# Altium schematic symbol library UWRT_Schematic_Library_2020.SchLib: 205 symbols (part 1 of 4)
Pins are listed as number, name and electrical type; pins without a type are passive.

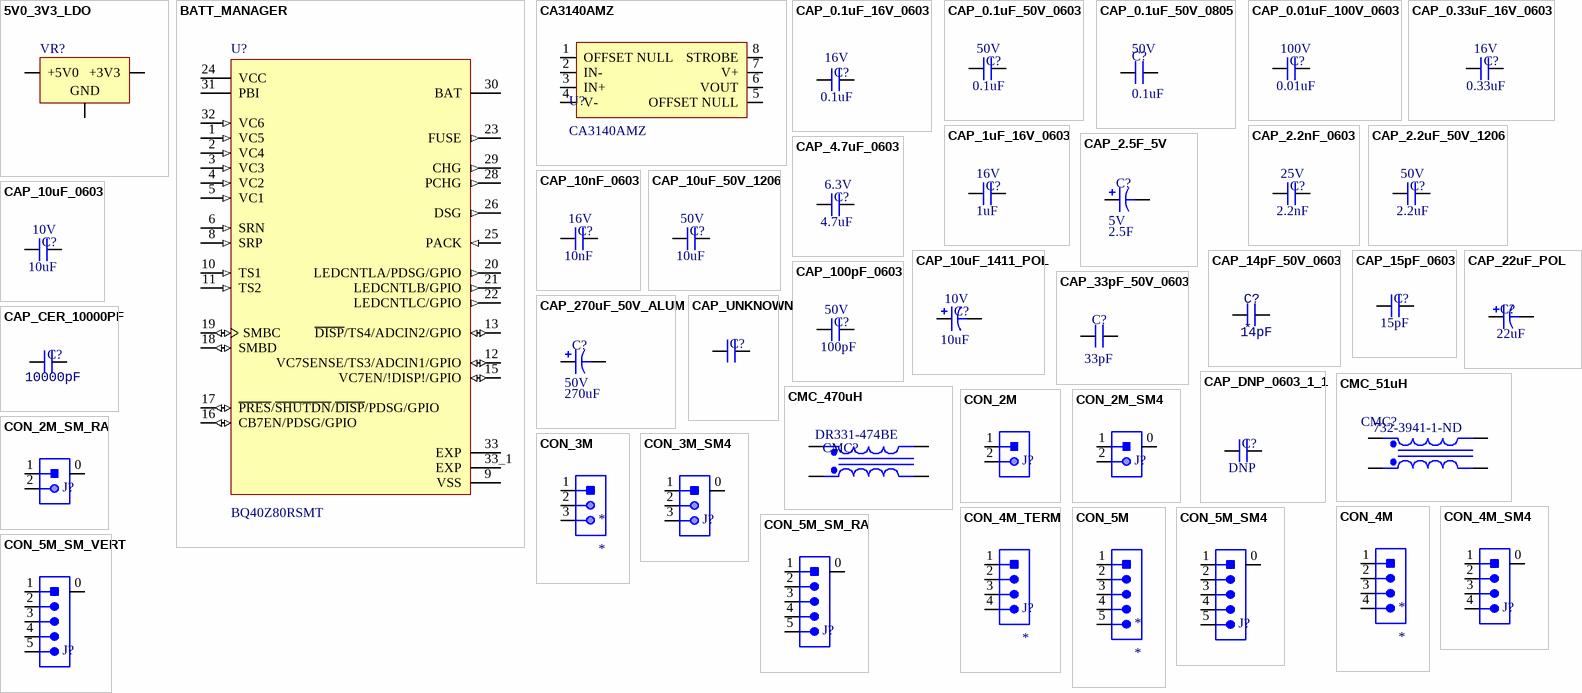
[diagram p0: symbols 5V0_3V3_LDO to CON_5M_SM_VERT]

## 5V0_3V3_LDO
designator VR?
IC REG LINEAR 3.3V 1A DPAK; Manufacturer Part Number 1: NCP1117DT33T5G; Manufacturer 1: ON Semiconductor; Current Output: 1A; Supplier Part Number 1: NCP1117DT33T5GOSCT-ND; Supplier 1: Digi-Key; Mount: Surface Mount
footprint D2PAK_L (D2-PAK, 4-Leads, Body 8.8x10.4mm, Pitch 2.54mm, Lead Span 15.1mm, IPC High Density)
footprint D2PAK_M (D2-PAK, 4-Leads, Body 8.8x10.4mm, Pitch 2.54mm, Lead Span 15.1mm, IPC Low Density)
footprint VOLTAGE_REGULATOR (DPAK, 3-Leads, Body 6.095x6.54mm, Pitch 4.57mm)
pins: 1 GND, 2 +3V3, 3 +5V0

## BATT_MANAGER
designator U?, comment BQ40Z80RSMT
POWER MANAGEMENT IC: Battery Multi-Function Controller IC Lithium Ion/Polymer 32-VQFN (4x4); Manufacturer 1: Texas Instruments; SnapEDA_Link: https://www.snapeda.com/parts/BQ40Z80RSMT/Texas%20Instruments/view-part/2782044/?ref=snap; Value: *; Manufacturer Part Number 1: BQ40Z80RSMT; Supplier Part Number 1: 296-BQ40Z80RSMTCT-ND; Supplier 1: Digi-Key
footprint BQ40Z80RSMT (QFN40P400X400X100-33N_BQ40Z80RSMT(Primary))
pins: 1 VC5 (in), 2 VC4 (in), 3 VC3 (in), 4 VC2 (in), 5 VC1 (in), 6 SRN (in), 8 SRP (in), 9 VSS (power), 10 TS1 (in), 11 TS2 (in), 12 VC7SENSE/TS3/ADCIN1/GPIO (io), 13 ~{DISP}/TS4/ADCIN2/GPIO (io), 15 VC7EN/!DISP!/GPIO (io), 16 CB7EN/PDSG/GPIO (io), 17 ~{PRES}/~{SHUTDN}/~{DISP}/PDSG/GPIO (io), 18 SMBD (io), 19 SMBC (io), 20 LEDCNTLA/PDSG/GPIO (out), 21 LEDCNTLB/GPIO (out), 22 LEDCNTLC/GPIO (out), 23 FUSE (out), 24 VCC (power), 25 PACK (in), 26 DSG (out), 28 PCHG (out), 29 CHG (out), 30 BAT (power), 31 PBI (power), 32 VC6 (in), 33 EXP (power), 33_1 EXP (power)

## CA3140AMZ
designator U?
IC OPAMP GP 1 CIRCUIT 8SOIC; Manufacturer 1: Renesas Electronics America Inc.; Supplier Part Number 1: CA3140AMZ-ND; Manufacturer Part Number 1: CA3140AMZ; Supplier 1: Digi-Key; Mount: Surface Mount
footprint CA3140AMZ
pins: 1 OFFSET NULL, 2 IN-, 3 IN+, 4 V-, 5 OFFSET NULL, 6 VOUT, 7 V+, 8 STROBE

## CAP_0.1uF_16V_0603
designator C?  value 0.1uF  Voltage Rating: 16V
CAP CER 0.1UF 16V X7R 0603; Manufacturer Part Number 1: CC0603KRX7R7BB104; Manufacturer 1: Yageo; Dimensions: 0.063" L x 0.031" W (1.60mm x 0.80mm); Package: 0603 (1608 Metric); Temperature Coefficient: X7R; Supplier Part Number 1: 311-1088-1-ND; Supplier 1: Digi-Key; Mount: Surface Mount
footprint CAPC0603(1608)55_N (Chip Capacitor, Body 1.6x0.8mm, Height 0.55mm, IPC Medium Density)
simulation model CAP (Capacitor)
signal-integrity model Cap
pins: 1, 2

## CAP_0.1uF_50V_0603
designator C?  value 0.1uF  Voltage Rating: 50V
CAP CER 0.1UF 50V X7R 0603; Manufacturer Part Number 1: CC0603KRX7R9BB104; Manufacturer 1: Yageo; Dimensions: 0.063" L x 0.031" W (1.60mm x 0.80mm); Package: 0603 (1608 Metric); Temperature Coefficient: X7R; Supplier Part Number 1: 311-1344-1-ND; Supplier 1: Digi-Key; Mount: Surface Mount
footprint CAPC0603(1608)55_N (Chip Capacitor, Body 1.6x0.8mm, Height 0.55mm, IPC Medium Density)
simulation model CAP (Capacitor)
signal-integrity model Cap
pins: 1, 2

## CAP_0.1uF_50V_0805
designator C?  value 0.1uF  Voltage Rating: 50V
CAP CER 0.1UF 50V X7R 0805; Manufacturer 1: Murata; Manufacturer Part Number 1: GCD21BR71H104KA01L; Capacitance: 100nF; Tolerance: 10%; Mount: Surface Mount; Case/Package: 0805; Case Code (Metric): 2012; Case Code (Imperial): 0805; Min Operating Temperature: -55°C; Max Operating Temperature: 125°C; Dielectric: X7R; Termination: SMD/SMT; Length: 2mm; Height: 1.25mm; Width: 0.049inch; Thickness: 0.049inch; Depth: 1.25mm; Ratings: AEC-Q200; ComponentLink1URL: https://datasheet.ciiva.com/29537/c03e-29537701.pdf?src-supplier=Digi-Key; ComponentLink1Description: https://datasheet.ciiva.com/29537/c03e-29537701.pdf?src-supplier=Digi-Key; Supplier 1: Digi-Key; Supplier Part Number 1: 490-11955-1-ND
footprint CAPC2012X140N
pins: 1, 2

## CAP_0.01uF_100V_0603
designator C?  value 0.01uF  Voltage Rating: 100V
CAP CER 10000PF 100V X7R 0603; Manufacturer Part Number 1: GCM188R72A103KA37J; Manufacturer 1: Murata Electronics; Dimensions: 0.063" L x 0.031" W (1.60mm x 0.80mm); Package: 0603 (1608 Metric); Temperature Coefficient: X7R; Supplier Part Number 1: 490-8028-1-ND; Supplier 1: Digi-Key; Mount: Surface Mount
footprint CAPC0603(1608)55_N (Chip Capacitor, Body 1.6x0.8mm, Height 0.55mm, IPC Medium Density)
simulation model CAP (Capacitor)
signal-integrity model Cap
pins: 1, 2

## CAP_0.33uF_16V_0603
designator C?  value 0.33uF  Voltage Rating: 16V
CAP CER 0.33UF 16V X7R 0603; Manufacturer Part Number 1: GCM188R71C334KA37D; Manufacturer 1: Murata Electronics North America; Dimensions: 0.063" L x 0.031" W (1.60mm x 0.80mm); Package: 0603 (1608 Metric); Temperature Coefficient: X7R; Supplier Part Number 1: 490-6050-1-ND; Supplier 1: Digi-Key; Mount: Surface Mount
footprint CAPC0603(1608)55_N (Chip Capacitor, Body 1.6x0.8mm, Height 0.55mm, IPC Medium Density)
simulation model CAP (Capacitor)
signal-integrity model Cap
pins: 1, 2

## CAP_1uF_16V_0603
designator C?  value 1uF  Voltage Rating: 16V
CAP CER 1UF 16V Y5V 0603; Manufacturer Part Number: CC0603ZRY5V7BB105; Manufacturer 1: Yageo; Dimensions: 0.063" L x 0.031" W (1.60mm x 0.80mm); Package: 0603 (1608 Metric); Temperature Coefficient: Y5V; Supplier Part Number 1: 311-1372-1-ND; Supplier 1: Digi-Key; Mount: Surface Mount
simulation model CAP (Capacitor)
signal-integrity model Cap
footprint CAPC0603(1608)55_N (Chip Capacitor, Body 1.6x0.8mm, Height 0.55mm, IPC Medium Density)
pins: 1, 2

## CAP_2.2nF_0603
designator C?  value 2.2nF  Voltage Rating: 25V
CAP CER 2.2NF 25V X7R 0603; Manufacturer Part Number 1: CC0603KRX7R8BB222; Manufacturer 1: Yageo; Dimensions: 0.063" L x 0.031" W (1.60mm x 0.80mm); Package: 0603 (1608 Metric); Temperature Coefficient: X7R; Supplier Part Number 1: 311-3653-1-ND; Supplier 1: Digi-Key; Mount: Surface Mount
footprint CAPC0603(1608)55_N (Chip Capacitor, Body 1.6x0.8mm, Height 0.55mm, IPC Medium Density)
simulation model CAP (Capacitor)
signal-integrity model Cap
pins: 1, 2

## CAP_2.2uF_50V_1206
designator C?, comment Voltage Rating: 50V  (hidden comment: 2.2uF)
CAP CER 2.2UF 50V X7R 1206; Manufacturer Part Numer 1: C1206C225K5RACAUTO; Manufacturer 1: KEMET; Dimensions: 0.126" L x 0.063" W (3.20mm x 1.6mm); Package: 1206 (3216 Metric); Supplier Part Number 1: 399-7019-1-ND; Supplier 1: Digi-Key; Mount: Surface Mount; Value: 2.2uF
simulation model CAP (Capacitor)
signal-integrity model Cap
footprint CAPC1206(3216) (Chip Capacitor, Body 3.2x1.6mm, Height 0.55mm, IPC Medium Density)
pins: 1, 2

## CAP_2.5F_5V
designator C?  Voltage Rating: 5V  Capacitance: 2.5F  (hidden comment: *)
CAP 2.5F 5V; Manufacturer 1: AVX Corporation; Manufacturer Part Number 1: SCMS22C255PRBA0; Tolerance: 0%, +100%; RoHS: Yes; Mount: Through Hole; Case/Package: Radial; Min Operating Temperature: -40°C; Max Operating Temperature: 85°C; Voltage Rating (DC): 5V; Dimensions: 0.787" L x 0.394" W (20.00mm x 10.00mm); Height - Seated (Max): 0.925" (23.50mm); Supplier 1: Digi-Key
pins: 1, 2

## CAP_4.7uF_0603
designator C?  value 4.7uF  Voltage Rating: 6.3V
CAP CER 4.7UF 6.3V X5R 0603; Manufacturer Part Number 1: CC0603KRX5R5BB475; Manufacturer 1: Yageo; Dimensions: 0.063" L x 0.031" W (1.60mm x 0.80mm); Package: 0603 (1608 Metric); Temperature Coefficient: X5R; Supplier Part Number 1: 311-1521-1-ND; Supplier 1: Digi-Key; Mount: Surface Mount
footprint CAPC0603(1608)55_N (Chip Capacitor, Body 1.6x0.8mm, Height 0.55mm, IPC Medium Density)
simulation model CAP (Capacitor)
signal-integrity model Cap
pins: 1, 2

## CAP_10nF_0603
designator C?  value 10nF  Voltage Rating: 16V
CAP CER 10000PF 16V X7R 0603; Manufacturer Part Number 1: CC0603KRX7R7BB103; Manufacturer 1: Yageo; Dimensions: 0.063" L x 0.031" W (1.60mm x 0.80mm); Package: 0603 (1608 Metric); Temperature Coefficient: X7R; Supplier Part Number 1: 311-3369-1-ND; Supplier 1: Digi-Key; Mount: Surface Mount
footprint CAPC0603(1608)55_N (Chip Capacitor, Body 1.6x0.8mm, Height 0.55mm, IPC Medium Density)
simulation model CAP (Capacitor)
signal-integrity model Cap
pins: 1, 2

## CAP_10uF_50V_1206
designator C?, comment Voltage Rating: 50V  (hidden comment: 10uF)
CAP CER 10UF 50V X5R 1206; Manufacturer Part Numer 1: GRT31CR61H106KE01L; Manufacturer 1: Murata; Dimensions: 0.126" L x 0.063" W (3.20mm x 1.6mm); Package: 1206 (3216 Metric); Supplier Part Number 1: 490-12456-1-ND; Supplier 1: Digi-Key; Mount: Surface Mount; Value: 10uF
simulation model CAP (Capacitor)
signal-integrity model Cap
footprint CAPC1206(3216) (Chip Capacitor, Body 3.2x1.6mm, Height 0.55mm, IPC Medium Density)
pins: 1, 2

## CAP_10uF_0603
designator C?, comment Voltage Rating: 10V  (hidden comment: 10uF)
CAP CER 10UF 10V X5R 0603; Manufacturer Part Number 1: CC0603MRX5R6BB106; Manufacturer 1: Yageo; Dimensions: 0.063" L x 0.031" W (1.60mm x 0.80mm); Package: 0603 (1608 Metric); Supplier Part Number 1: 311-1817-1-ND; Supplier 1: Digi-Key; Mount: Surface Mount; Value: 10uF
simulation model CAP (Capacitor)
signal-integrity model Cap
footprint CAPC0603(1608)55_N (Chip Capacitor, Body 1.6x0.8mm, Height 0.55mm, IPC Medium Density)
pins: 1, 2

## CAP_10uF_1411_POL
designator C?  value 10uF  Voltage Rating: 10V
CAP TANT 10UF 20% 10V 1411; Manufacturer Part Number 1: F971A106MBAHT3; Manufacturer 1: AVX Corporation; Dimensions: 0.063" L x 0.031" W (1.60mm x 0.80mm); Package: 1411 (3528 Metric); Supplier Part Number 1: 478-12047-1-ND; Supplier 1: Digi-Key; Mount: Surface Mount
simulation model CAP (Capacitor)
signal-integrity model Cap
footprint AVX-CAPC3528_V (SMT Capacitor, 2 Leads, Body 3.5x2.8mm)
pins: 1, 2

## CAP_14pF_50V_0603
designator C?  value 14pF
CAP CER 14PF 50V C0G/NP0 0603; Manufacturer 1: Samsung; Manufacturer Part Number 1: CL10C140JB8NNNC; Tolerance: 5%; Dielectric: C0G; Supplier 1: Digi-Key; Stock 1: 187088; Pricing 1: 1=0.10000, 10=0.06700, 100=0.02980, 500=0.02130, 1000=0.01673 (USD); RoHS: Yes; Mount: Surface Mount; Case/Package: 0603; Case Code (Metric): 1608; Case Code (Imperial): 0603; Min Operating Temperature: -55°C; Max Operating Temperature: 125°C; Package Quantity: 1; Packaging: Tape and Reel; Voltage Rating: 50V; Voltage Rating (DC): 50V; Length: 1.6mm; Height: 0.8mm; Width: 0.031inch; Depth: 0.8mm; Thickness: 0.035inch; Radiation Hardening: No; ComponentLink1URL: https://datasheet.ciiva.com/25782/cl10c140jb8nnnc-25782947.pdf?src-supplier=Digi-Key; ComponentLink1Description: https://datasheet.ciiva.com/25782/cl10c140jb8nnnc-25782947.pdf?src-supplier=Digi-Key; Supplier Part Number 1: 1276-2187-1-ND; Capacitance: 14pF
pins: 1, 2

## CAP_15pF_0603
designator C?  value 15pF
CAP CER 15PF 250V NPO 0603; Manufacturer Part Number 1: AC0603JRNPOYBN150; Manufacturer 1: Yageo; Temperature Coefficient: NP0; Dimensions: 0.063" L x 0.031" W (1.60mm x 0.80mm); Package: 0603 (1608 Metric); Voltage Rating: 250V; Supplier Part Number 1: 311-3282-1-ND; Supplier 1: Digi-Key; Mount: Surface Mount, MLCC
footprint CAPC0603(1608)55_N (Chip Capacitor, Body 1.6x0.8mm, Height 0.55mm, IPC Medium Density)
simulation model CAP (Capacitor)
signal-integrity model Cap
pins: 1, 2

## CAP_22uF_POL
designator C?  value 22uF
CAP ALUM 22UF 20% 50V RADIAL; Manufacturer 1: Wurth Electronics Inc.; Manufacturer Part Number 1: 860020672011; Voltage Rating: 50V; Tolerance: 20%; Supplier Part Number 1: 732-8857-1-ND; Supplier 1: Digi-Key; Mount: Through Hole
footprint CAPR-2/4h6.8
simulation model CAP (Capacitor)
signal-integrity model Cap Pol
pins: 1, 2
1 alternate drawing of the same symbol

## CAP_33pF_50V_0603
designator C?  Capacitance: 33pF  (hidden comment: *)
CAP CER 33PF 50V C0G/NP0; Manufacturer 1: Yageo; Manufacturer Part Number 1: CC0603JRNPO9BN330; Dielectric Material: Ceramic; Temperature Coefficient: 30ppm/°C; Tolerance: 5%; Dielectric: C0G; Insulation Resistance: 100GR; Supplier 1: Digi-Key; Stock 1: 177901; Pricing 1: 1=0.10000, 10=0.04900, 100=0.02190, 500=0.01566, 1000=0.01231 (USD); RoHS: Yes; Mount: Surface Mount; Case/Package: 0603; Number of Pins: 2; Case Code (Metric): 1608; Case Code (Imperial): 0603; Min Operating Temperature: -55°C; Max Operating Temperature: 125°C; Termination: SMD/SMT; Composition: Ceramic; Voltage: 50V; Packaging: Tape and Reel; Voltage Rating: 50V; Package Quantity: 1; Voltage Rating (DC): 50V; Length: 1.6mm; Height: 0.8mm; Thickness: 0.035inch; Depth: 0.8mm; Width: 0.031inch; Radiation Hardening: No; Lead Free: Lead Free; REACH SVHC: No SVHC; ComponentLink1URL: https://datasheet.ciiva.com/11786/0900766b8079c870-11786082.pdf?src-supplier=RSComponents; ComponentLink1Description: https://datasheet.ciiva.com/11786/0900766b8079c870-11786082.pdf?src-supplier=RSComponents; ComponentLink2URL: https://datasheet.ciiva.com/26862/getdatasheetpartid-403532-26862767.pdf?src-supplier=Verical; ComponentLink2Description: https://datasheet.ciiva.com/26862/getdatasheetpartid-403532-26862767.pdf?src-supplier=Verical; ComponentLink3URL: https://datasheet.ciiva.com/144/mlccorderingcode-144643.pdf?src-supplier=Digi-Key; ComponentLink3Description: https://datasheet.ciiva.com/144/mlccorderingcode-144643.pdf?src-supplier=Digi-Key; ComponentLink4URL: https://datasheet.ciiva.com/144/mlccorderingcode-144645.pdf?src-supplier=Digi-Key; ComponentLink4Description: https://datasheet.ciiva.com/144/mlccorderingcode-144645.pdf?src-supplier=Digi-Key; ComponentLink5URL: https://datasheet.ciiva.com/8033/1372269-8033734.pdf?src-supplier=Element14; ComponentLink5Description: https://datasheet.ciiva.com/8033/1372269-8033734.pdf?src-supplier=Element14; ComponentLink6URL: https://datasheet.ciiva.com/8033/1443161-8033735.pdf?src-supplier=Element14; ComponentLink6Description: https://datasheet.ciiva.com/8033/1443161-8033735.pdf?src-supplier=Element14; ComponentLink7URL: https://datasheet.ciiva.com/11464/upy-gp-np0-16v-to-50v-8-11464730.pdf?src-supplier=Avnet; ComponentLink7Description: https://datasheet.ciiva.com/11464/upy-gp-np0-16v-to-50v-8-11464730.pdf?src-supplier=Avnet; ComponentLink8URL: https://datasheet.ciiva.com/46430/1835847-46430155.pdf?src-supplier=Element14; ComponentLink8Description: https://datasheet.ciiva.com/46430/1835847-46430155.pdf?src-supplier=Element14; ComponentLink9URL: https://datasheet.ciiva.com/144/mlccorderingcode-144644.pdf?src-supplier=Digi-Key; ComponentLink9Description: https://datasheet.ciiva.com/144/mlccorderingcode-144644.pdf?src-supplier=Digi-Key; ComponentLink10URL: https://datasheet.ciiva.com/5426/upy-gp-np0-16v-to-50v-8-5426614.pdf?src-supplier=Mouser; ComponentLink10Description: https://datasheet.ciiva.com/5426/upy-gp-np0-16v-to-50v-8-5426614.pdf?src-supplier=Mouser; ComponentLink11URL: https://datasheet.ciiva.com/7978/1443161-7978142.pdf?src-supplier=Element14; ComponentLink11Description: https://datasheet.ciiva.com/7978/1443161-7978142.pdf?src-supplier=Element14; Supplier Part Number 1: 311-1064-1-ND
footprint CAPC0603(1608)55_N (Chip Capacitor, Body 1.6x0.8mm, Height 0.55mm, IPC Medium Density)
pins: 1, 2

## CAP_100pF_0603
designator C?  value 100pF  Voltage Rating: 50V
CAP CER 100PF 50V C0G/NP0 0603; Manufacturer Part Number 1: VJ0603A101JXAAC; Manufacturer 1: Vishay Vitramon; Temperature Coefficient: C0G; Dimensions: 0.063" L x 0.031" W (1.60mm x 0.80mm); Package: 0603 (1608 Metric); Supplier Part Number 1: 720-1370-1-ND; Supplier 1: Digi-Key; Mount: Surface Mount
footprint CAPC0603(1608)55_N (Chip Capacitor, Body 1.6x0.8mm, Height 0.55mm, IPC Medium Density)
simulation model CAP (Capacitor)
signal-integrity model Cap
pins: 1, 2

## CAP_270uF_50V_ALUM
designator C?  Voltage Rating: 50V  Capacitance: 270uF  (hidden comment: *)
CAP ALUM 270UF 20% 50V RADIAL; Manufacturer 1: Panasonic; Manufacturer Part Number 1: EEEFK1H271SP; ESR (Equivalent Series Resistance): 180mR; Polarity: Polar; Ripple Current: 435.5mA; Life (Hours): 2000Hour; Ripple Current (AC): 670mA; Supplier 1: Digi-Key; Stock 1: 730; Pricing 1: 1=0.98000, 10=0.74800, 100=0.53500 (USD); RoHS: Yes; Mount: Surface Mount; Case/Package: Radial; Min Operating Temperature: -55°C; Max Operating Temperature: 105°C; Tolerance: 20%; Package Quantity: 500; Packaging: Cut Tape; Voltage Rating (DC): 50V; Diameter: 10mm; Height: 10.2mm; Height - Seated (Max): 0.413inch; REACH SVHC: Unknown; ComponentLink1URL: https://media.digikey.com/pdf/Data%20Sheets/Panasonic%20Capacitors%20PDFs/FKS_Series_Type_V.pdf?src-supplier=Digi-Key; ComponentLink1Description: https://media.digikey.com/pdf/Data%20Sheets/Panasonic%20Capacitors%20PDFs/FKS_Series_Type_V.pdf?src-supplier=Digi-Key; ComponentLink2URL: https://media.digikey.com/pdf/Data%20Sheets/Panasonic%20Capacitors%20PDFs/FKS-V_Series_NPI.pdf?src-supplier=Digi-Key; ComponentLink2Description: https://media.digikey.com/pdf/Data%20Sheets/Panasonic%20Capacitors%20PDFs/FKS-V_Series_NPI.pdf?src-supplier=Digi-Key; ComponentLink3URL: http://www.farnell.com/datasheets/2813662.pdf?src-supplier=Farnell; ComponentLink3Description: http://www.farnell.com/datasheets/2813662.pdf?src-supplier=Farnell; ComponentLink4URL: http://www.farnell.com/datasheets/1996420.pdf?src-supplier=Element14; ComponentLink4Description: http://www.farnell.com/datasheets/1996420.pdf?src-supplier=Element14; ComponentLink5URL: https://industrial.panasonic.com/cdbs/www-data/pdf/RDE0000/DME0000COL90.pdf?src-supplier=Digi-Key; ComponentLink5Description: https://industrial.panasonic.com/cdbs/www-data/pdf/RDE0000/DME0000COL90.pdf?src-supplier=Digi-Key; Supplier Part Number 1: P18967CT-ND
footprint RADIAL_PANASONIC_G (Size G radial surface mount capacitor)
pins: 1, 2

## CAP_CER_10000PF
designator C?
CAP CER 10000PF 200V X7R 0603; Manufacturer 1: KEMET; Manufacturer Part Number 1: C0603C103K2REC7867; Capacitance: 10nF; Tolerance: 10%; Case/Package: 0603; Case Code (Imperial): 0603; Case Code (Metric): 1608; Supplier 1: Digi-Key; Supplier Part Number 1: 399-14173-1-ND; Mount: Surface Mount
footprint CAP_CER_10000PF (CAP CER 10000PF 200V X7R 0603)
pins: 1, 2
text: 10000pF

## CAP_DNP_0603_1_1
designator C?  value DNP
CAP DNP 0603; Dimensions: 0.063" L x 0.031" W (1.60mm x 0.80mm); Package: 0603 (1608 Metric)
footprint CAPC0603(1608)55_N (Chip Capacitor, Body 1.6x0.8mm, Height 0.55mm, IPC Medium Density)
simulation model CAP (Capacitor)
signal-integrity model Cap
pins: 1, 2

## CAP_UNKNOWN
designator C?
footprint CAPC0603(1608)55_N (Chip Capacitor, Body 1.6x0.8mm, Height 0.55mm, IPC Medium Density)
simulation model CAP (Capacitor)
signal-integrity model Cap
pins: 1, 2

## CMC_51uH
designator CMC?  Supplier Part Number 1: 732-3941-1-ND  (hidden comment: *)
CMC 51uH 300MA 2LN SMD; Manufacturer 1: Wurth Electronics; Manufacturer Part Number 1: 744212510; Core Material: Ferrite; DC Resistance (DCR): 160mR; Test Frequency: 100kHz; Inductance Tolerance: 50%; Voltage Rating (DC): 80V; Number of Lines: 2; Impedance: 300R; Supplier 1: Digi-Key; Stock 1: 1070; Pricing 1: 1=4.22000, 10=4.16600, 50=3.76300, 100=3.62900, 500=3.36000 (USD); RoHS: Yes; Mount: Surface Mount; Case/Package: SMD/SMT; Number of Pins: 4; Min Operating Temperature: -40°C; Max Operating Temperature: 105°C; Current: 300mA; Max DC Current: 300mA; Termination: SMD/SMT; Current Rating: 300mA; Inductance: 51uH; Tolerance: 50%; Package Quantity: 1000; Packaging: Tape and Reel; Length: 6.5mm; Height: 1.65mm; Depth: 3.6mm; Width: 0.142inch; REACH SVHC: No SVHC; Lead Free: Lead Free; ComponentLink1URL: https://datasheet.ciiva.com/11800/0900766b8059564e-11800467.pdf?src-supplier=RSComponents; ComponentLink1Description: https://datasheet.ciiva.com/11800/0900766b8059564e-11800467.pdf?src-supplier=RSComponents; ComponentLink2URL: https://datasheet.ciiva.com/1130/744212510-1130407.pdf?src-supplier=Newark; ComponentLink2Description: https://datasheet.ciiva.com/1130/744212510-1130407.pdf?src-supplier=Newark; ComponentLink3URL: https://datasheet.ciiva.com/6048/1735560-6048484.pdf?src-supplier=Farnell; ComponentLink3Description: https://datasheet.ciiva.com/6048/1735560-6048484.pdf?src-supplier=Farnell; ComponentLink4URL: https://datasheet.ciiva.com/4952/744212510-77598-4952687.pdf?src-supplier=Mouser; ComponentLink4Description: https://datasheet.ciiva.com/4952/744212510-77598-4952687.pdf?src-supplier=Mouser; ComponentLink5URL: https://datasheet.ciiva.com/6216/744212510-6216346.pdf?src-supplier=Digi-Key; ComponentLink5Description: https://datasheet.ciiva.com/6216/744212510-6216346.pdf?src-supplier=Digi-Key; ComponentLink6URL: https://datasheet.ciiva.com/22705/1735560-22705131.pdf?src-supplier=Element14; ComponentLink6Description: https://datasheet.ciiva.com/22705/1735560-22705131.pdf?src-supplier=Element14; ComponentLink7URL: https://datasheet.ciiva.com/6216/744212510-6216348.pdf?src-supplier=Digi-Key; ComponentLink7Description: https://datasheet.ciiva.com/6216/744212510-6216348.pdf?src-supplier=Digi-Key; ComponentLink8URL: https://datasheet.ciiva.com/7764/1735560-7764951.pdf?src-supplier=Element14; ComponentLink8Description: https://datasheet.ciiva.com/7764/1735560-7764951.pdf?src-supplier=Element14
footprint 744212510 (CMC HORIZONTAL 4 J-LEAD)
pins: 1 Pri+, 3 Sec+, 4 Sec-, 5 Pri-

## CMC_470uH
designator CMC?  Manufacturer Part Number 1: DR331-474BE
CMC 470UH 500MA 2LN SMD; Manufacturer 1: Bourns; Published: 8-Jun-2000; PackageReference: TRF_5; Publisher: Altium Limited; PackageDescription: Transformer; 5 Leads; Supplier 1: Digi-Key; Mount: Surface Mount; Supplier Packaging 1: Cut Tape; Current: 500mA; Inductance: 470uH; Supplier Part Number 1: DR331-474BECT-ND
simulation model TRANSFORMER (Transformer)
footprint DR331-513AE (CMC)
pins: 1 Sec+, 2 Pri+, 3 Pri-, 4 Sec-

## CON_2M
designator J?  (value not drawn)
footprint JST-B2B-PHSK
footprint JST-B2B-SM4-TB
footprint JST-S2B-PHSK
footprint JST-S2B-SM4-TB
footprint HDR1X2 (Connector; Header; 2 Position)
pins: 1, 2

## CON_2M_SM4
designator J?  (value not drawn)
CONN HEADER SMD 2POS 2MM; Manufacturer 1: JST; Manufacturer Part Number 1: B2B-PH-SM4-TB(LF)(SN); Max Current Rating: 2A; Max Voltage Rating: 100V; Supplier 1: Digi-Key; Supplier Part Number 1: 455-1734-1-ND; ComponentLink1URL: https://datasheet.ciiva.com/11748/0900766b80ddea81-11748001.pdf?src-supplier=RSComponents; ComponentLink1Description: https://datasheet.ciiva.com/11748/0900766b80ddea81-11748001.pdf?src-supplier=RSComponents; ComponentLink2URL: https://datasheet.ciiva.com/16216/b2b-ph-sm4-tblfsn-16216102.pdf?src-supplier=Future+Electronics; ComponentLink2Description: https://datasheet.ciiva.com/16216/b2b-ph-sm4-tblfsn-16216102.pdf?src-supplier=Future+Electronics; ComponentLink3URL: https://datasheet.ciiva.com/8052/80567-8052023.pdf?src-supplier=Element14; ComponentLink3Description: https://datasheet.ciiva.com/8052/80567-8052023.pdf?src-supplier=Element14; ComponentLink4URL: https://datasheet.ciiva.com/712/eph-712504.pdf?src-supplier=Digi-Key; ComponentLink4Description: https://datasheet.ciiva.com/712/eph-712504.pdf?src-supplier=Digi-Key; ComponentLink5URL: https://datasheet.ciiva.com/712/eph-712505.pdf?src-supplier=Digi-Key; ComponentLink5Description: https://datasheet.ciiva.com/712/eph-712505.pdf?src-supplier=Digi-Key; ComponentLink6URL: https://datasheet.ciiva.com/712/eph-712506.pdf?src-supplier=Digi-Key; ComponentLink6Description: https://datasheet.ciiva.com/712/eph-712506.pdf?src-supplier=Digi-Key; Pitch: 2mm; Mount: Surface Mount
footprint JST-B2B-SM4-TB
pins: 0, 1, 2

## CON_2M_SM_RA
designator J?  (value not drawn)
CONN HEADER SMD RIGHT ANGLE 2MM PITCH; Manufacturer 1: Molex; Manufacturer Part Number 1: 5024940270; Connector Type: Receptacle,Forked; Number of Positions: 2; Supplier 1: Digi-Key; Stock 1: 3397; Pricing 1: 1=0.53000, 10=0.49400, 25=0.44440, 50=0.39500, 100=0.37850, 250=0.34556 (USD); RoHS: No; Mount: Surface Mount; Contact Plating: Tin; Insulation Color: Natural; Insulation Material: Resin; Min Operating Temperature: -40°C; Max Operating Temperature: 105°C; Fastening Type: Latch; Packaging: Tape and Reel; Number of Rows: 1; Termination: Solder; Flammability Rating: UL94 V-0; ComponentLink1URL: https://www.molex.com/pdm_docs/as/AS-502439-002-001.pdf?src-supplier=Digi-Key; ComponentLink1Description: https://www.molex.com/pdm_docs/as/AS-502439-002-001.pdf?src-supplier=Digi-Key; Supplier Part Number 1: WM15810CT-ND
footprint MOLEX-5024940270 (Molex 5024940670 2 pin SMD RA connector)
pins: 0, 1, 2

## CON_3M
designator *
footprint JST-B3B-SM4-TB
footprint JST-B3B-PHSK
footprint JST-S3B-SM4-TB
footprint JST-S3B-PHSK
pins: 1, 2, 3

## CON_3M_SM4
designator J?  (value not drawn)
CONN HEADER SMD 3POS 2MM; Manufacturer 1: JST; Manufacturer Part Number 1: B3B-PH-SM4-TB(LF)(SN); Max Current Rating: 2A; Max Voltage Rating: 100V; Supplier 1: Digi-Key; Supplier Part Number 1: 455-1735-1-ND; ComponentLink1URL: https://datasheet.ciiva.com/11747/0900766b80ddea81-11747684.pdf?src-supplier=RSComponents; ComponentLink1Description: https://datasheet.ciiva.com/11747/0900766b80ddea81-11747684.pdf?src-supplier=RSComponents; Pitch: 2mm; Mount: Surface Mount
footprint JST-B3B-SM4-TB
pins: 0, 1, 2, 3

## CON_4M
designator *
footprint JST-B4B-PHSK
footprint JST-B4B-SM4-TB
footprint JST-S4B-PHSK
footprint JST-S4B-SM4-TB
pins: 1, 2, 3, 4

## CON_4M_SM4
designator J?  (value not drawn)
CONN HEADER SMD 4POS 2MM; Manufacturer 1: JST; Manufacturer Part Number 1: B4B-PH-SM4-TB(LF)(SN); Max Current Rating: 2A; Max Voltage Rating: 100V; Supplier 1: Digi-Key; Supplier Part Number 1: 455-1736-1-ND; ComponentLink1URL: https://datasheet.ciiva.com/8052/1699381-8052048.pdf?src-supplier=Element14; ComponentLink1Description: https://datasheet.ciiva.com/8052/1699381-8052048.pdf?src-supplier=Element14; ComponentLink2URL: https://datasheet.ciiva.com/11747/0900766b80ddea81-11747504.pdf?src-supplier=RSComponents; ComponentLink2Description: https://datasheet.ciiva.com/11747/0900766b80ddea81-11747504.pdf?src-supplier=RSComponents; ComponentLink3URL: https://datasheet.ciiva.com/6747/80567-6747409.pdf?src-supplier=Newark; ComponentLink3Description: https://datasheet.ciiva.com/6747/80567-6747409.pdf?src-supplier=Newark; ComponentLink4URL: https://datasheet.ciiva.com/727/eph-727525.pdf?src-supplier=Digi-Key; ComponentLink4Description: https://datasheet.ciiva.com/727/eph-727525.pdf?src-supplier=Digi-Key; ComponentLink5URL: https://datasheet.ciiva.com/712/eph-712582.pdf?src-supplier=Digi-Key; ComponentLink5Description: https://datasheet.ciiva.com/712/eph-712582.pdf?src-supplier=Digi-Key; ComponentLink6URL: https://datasheet.ciiva.com/712/eph-712583.pdf?src-supplier=Digi-Key; ComponentLink6Description: https://datasheet.ciiva.com/712/eph-712583.pdf?src-supplier=Digi-Key; Pitch: 2mm; Mount: Surface Mount
footprint JST-B4B-SM4-TB
pins: 0, 1, 2, 3, 4

## CON_4M_TERM
designator J?
TERM BLK 4POS SIDE ENTRY 5MM PCB; Manufacturer Part Number 1: 1935187; Manufacturer 1: Phoenix Contact; Current: 18A; Voltage: 300V; Wire Gauge: 12-26AWG; Wire Termination: Screw; Screw Thread: M2.6; Supplier Part Number 1: 277-1579-ND; Supplier 1: Digi-Key; Pitch: 5mm; Mounting Type: Through Hole
footprint 1935187
pins: 1, 2, 3, 4

## CON_5M
designator *
footprint JST-B5B-PHSK
footprint JST-B5B-SM4-TB
footprint JST-S5B-PHSK
footprint JST-S5B-SM4-TB
pins: 1, 2, 3, 4, 5

## CON_5M_SM4
designator J?  (value not drawn)
CONN HEADER SMD 5POS 2MM; Manufacturer 1: JST; Manufacturer Part Number 1: B5B-PH-SM4-TB(LF)(SN); Max Current Rating: 2A; Max Voltage Rating: 100V; Supplier 1: Digi-Key; ComponentLink1URL: https://datasheet.ciiva.com/11749/0900766b80ddea81-11749188.pdf?src-supplier=RSComponents; ComponentLink1Description: https://datasheet.ciiva.com/11749/0900766b80ddea81-11749188.pdf?src-supplier=RSComponents; ComponentLink2URL: https://datasheet.ciiva.com/712/eph-712595.pdf?src-supplier=Digi-Key; ComponentLink2Description: https://datasheet.ciiva.com/712/eph-712595.pdf?src-supplier=Digi-Key; ComponentLink3URL: https://datasheet.ciiva.com/712/eph-712596.pdf?src-supplier=Digi-Key; ComponentLink3Description: https://datasheet.ciiva.com/712/eph-712596.pdf?src-supplier=Digi-Key; ComponentLink4URL: https://datasheet.ciiva.com/730/eph-730612.pdf?src-supplier=Digi-Key; ComponentLink4Description: https://datasheet.ciiva.com/730/eph-730612.pdf?src-supplier=Digi-Key; ComponentLink5URL: https://datasheet.ciiva.com/16344/eph-16344920.pdf?src-supplier=Future+Electronics; ComponentLink5Description: https://datasheet.ciiva.com/16344/eph-16344920.pdf?src-supplier=Future+Electronics; Supplier Part Number 1: 455-1737-1-ND; Pitch: 2mm; Mount: Surface Mount
footprint JST-B5B-SM4-TB
pins: 0, 1, 2, 3, 4, 5

## CON_5M_SM_RA
designator J?  (value not drawn)
CONN HEADER SMD RIGHT ANGLE 1.5MM PITCH; Manufacturer 1: Molex; Manufacturer Part Number 1: 5025850570; Connector Type: Receptacle,Center Strip Contact; Number of Positions: 5; Current Rating: 2A; Supplier 1: Digi-Key; Stock 1: 2875; RoHS: Yes; Mount: Surface Mount; Termination: Solder; Number of Contacts: 5; Orientation: Right Angle; Number of Circuits: 5; Number of Rows: 1; Supplier Part Number 1: WM14469CT-ND
footprint MOLEX-5025850570
pins: 0, 1, 2, 3, 4, 5

## CON_5M_SM_VERT
designator J?  (value not drawn)
CONN HEADER SMD VERTICAL 1.5MM PITCH; Manufacturer 1: Molex; Manufacturer Part Number 1: 5025840570; Connector Type: Receptacle,Center Strip Contact; Number of Positions: 5; Gender: Female; Current Rating: 2A; Voltage Rating: 100V; Glow Wire Compliant: Non-compliant; Supplier 1: Digi-Key; Stock 1: 2875; Pricing 1: 1=0.66000, 10=0.61400, 100=0.47110 (USD); RoHS: Yes; Mount: Surface Mount; Housing Material: Resin; Housing Color: Beige; Contact Plating: Tin; Color: Beige; Contact Material: Copper Alloy; Min Operating Temperature: -25°C; Max Operating Temperature: 85°C; Termination: Solder; Number of Contacts: 5; Orientation: Vertical; Number of Circuits: 5; Number of Rows: 1; Package Quantity: 900; Fastening Type: Latch; Packaging: Tape and Reel; Contact Gender: Female; Length: 11.8mm; Pitch: 1.5mm; Depth: 6.35mm; Radiation Hardening: No; REACH SVHC: No SVHC; ComponentLink1URL: https://datasheet.ciiva.com/756/5025840370-sd-756789.pdf?src-supplier=Digi-Key; ComponentLink1Description: https://datasheet.ciiva.com/756/5025840370-sd-756789.pdf?src-supplier=Digi-Key; ComponentLink2URL: https://datasheet.ciiva.com/30117/81825025840570-pcb-receptacles-30117024.pdf?src-supplier=Onlinecomponents.com; ComponentLink2Description: https://datasheet.ciiva.com/30117/81825025840570-pcb-receptacles-30117024.pdf?src-supplier=Onlinecomponents.com; ComponentLink3URL: https://datasheet.ciiva.com/10084/5025840570-pcb-receptacles-10084838.pdf?src-supplier=Avnet; ComponentLink3Description: https://datasheet.ciiva.com/10084/5025840570-pcb-receptacles-10084838.pdf?src-supplier=Avnet; ComponentLink4URL: https://datasheet.ciiva.com/13669/5025840570-pcb-receptacles-179570-13669898.pdf?src-supplier=Mouser; ComponentLink4Description: https://datasheet.ciiva.com/13669/5025840570-pcb-receptacles-179570-13669898.pdf?src-supplier=Mouser; Supplier Part Number 1: WM14463CT-ND
footprint MOLEX-5025840570 (Molex 5024940670 12 pin 1.5 mm pitch SMD vertical connector)
pins: 0, 1, 2, 3, 4, 5

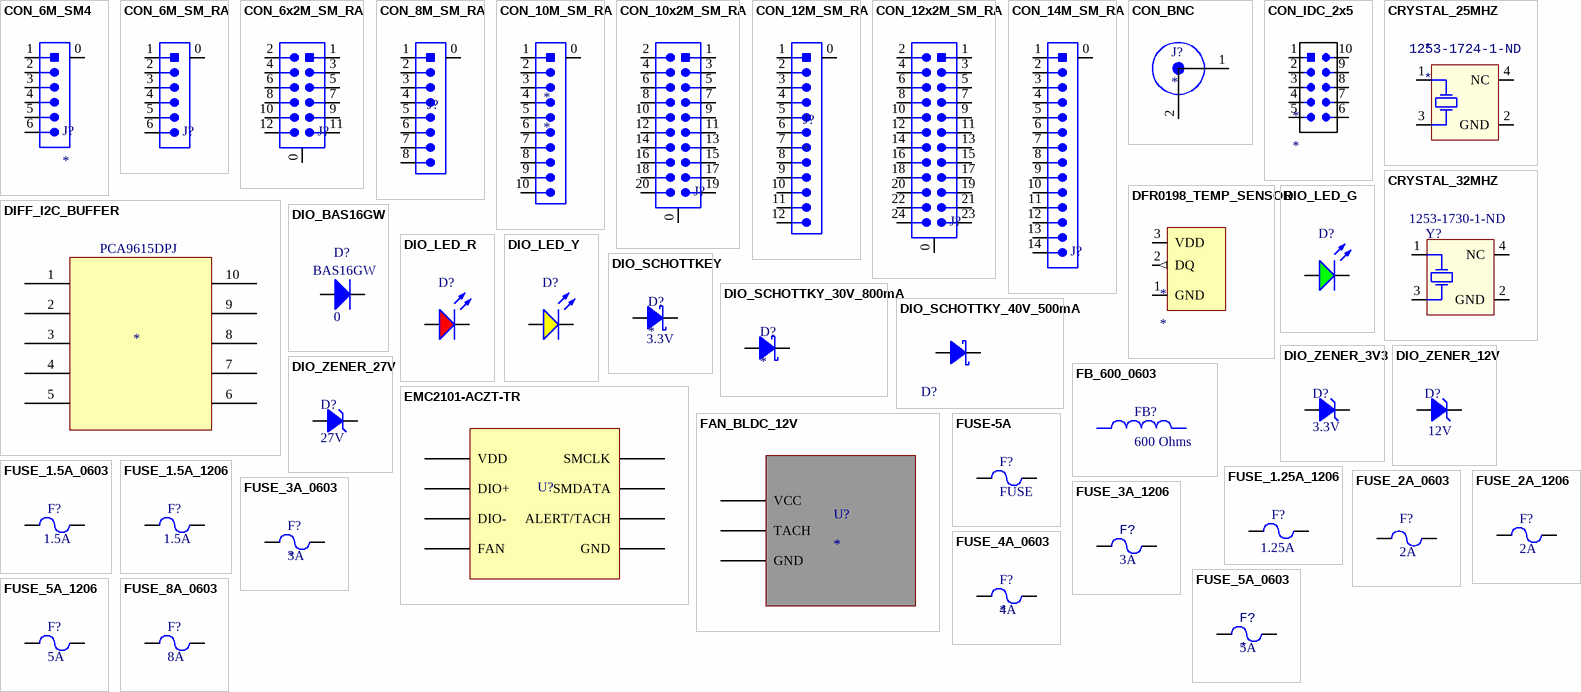
[diagram p1: symbols CON_6M_SM4 to FUSE_8A_0603]

## CON_6M_SM4
designator J?
CONN HEADER SMD 6POS 2MM; Manufacturer Part Number: B6B-PH-SM4-TB(LF)(SN); Manufacturer: JST; Current Rating: 2A; Voltage Rating: 100V; Mount: Surface Mount; Supplier 1: DigiKey; Supplier Part Number 1: 455-1738-1-ND
footprint JST-B6B-SM4-TB
pins: 0, 1, 2, 3, 4, 5, 6

## CON_6M_SM_RA
designator J?  (value not drawn)
CONN HEADER SMD RIGHT ANGLE 2MM PITCH; Manufacturer 1: Molex; Manufacturer Part Number 1: 502494-0670; Insulation Resistance: 1GR; Current Rating: 3A; Voltage Rating: 250V; Connector Type: Receptacle,Forked; Number of Positions: 6; Gender: Receptacle; Glow Wire Compliant: Non-compliant; Supplier 1: Digi-Key; Stock 1: 7093; Pricing 1: 1=0.81000, 10=0.70800, 25=0.66680, 50=0.63880, 100=0.61110, 250=0.55552 (USD); RoHS: Yes; Mount: Surface Mount; Material: Polybutylene; Color: Natural; Housing Material: PBT; Housing Color: Natural; Contact Plating: Tin; Contact Material: Copper Alloy; Min Operating Temperature: -25°C; Max Operating Temperature: 85°C; Package Quantity: 950; Number of Rows: 1; Fastening Type: Latch; Packaging: Tape and Reel; Termination: Solder; Number of Contacts: 6; Orientation: Right Angle; Number of Circuits: 6; Contact Gender: Female; Max Voltage Rating (AC): 250V; Max Voltage Rating (DC): 250V; Length: 16mm; Pitch: 2mm; Depth: 6.85mm; Radiation Hardening: No; REACH SVHC: Unknown; Flammability Rating: UL94 V-0; ComponentLink1URL: https://datasheet.ciiva.com/755/5024940670-sd-755844.pdf?src-supplier=Digi-Key; ComponentLink1Description: https://datasheet.ciiva.com/755/5024940670-sd-755844.pdf?src-supplier=Digi-Key; ComponentLink2URL: https://datasheet.ciiva.com/24467/101355024940670-pcb-receptacles-24467588.pdf?src-supplier=Onlinecomponents.com; ComponentLink2Description: https://datasheet.ciiva.com/24467/101355024940670-pcb-receptacles-24467588.pdf?src-supplier=Onlinecomponents.com; ComponentLink3URL: https://datasheet.ciiva.com/16656/5024940670-pcb-receptacles-16656439.pdf?src-supplier=Avnet+Europe; ComponentLink3Description: https://datasheet.ciiva.com/16656/5024940670-pcb-receptacles-16656439.pdf?src-supplier=Avnet+Europe; ComponentLink4URL: https://datasheet.ciiva.com/7436/1630854-7436283.pdf?src-supplier=Newark; ComponentLink4Description: https://datasheet.ciiva.com/7436/1630854-7436283.pdf?src-supplier=Newark; ComponentLink5URL: https://datasheet.ciiva.com/5157/5024940670-pcb-receptacles-179322-5157180.pdf?src-supplier=Mouser; ComponentLink5Description: https://datasheet.ciiva.com/5157/5024940670-pcb-receptacles-179322-5157180.pdf?src-supplier=Mouser; ComponentLink6URL: https://datasheet.ciiva.com/7917/1630854-7917014.pdf?src-supplier=Element14; ComponentLink6Description: https://datasheet.ciiva.com/7917/1630854-7917014.pdf?src-supplier=Element14; ComponentLink7URL: https://datasheet.ciiva.com/30242/101355024940670-pcb-receptacles-30242550.pdf?src-supplier=Onlinecomponents.com; ComponentLink7Description: https://datasheet.ciiva.com/30242/101355024940670-pcb-receptacles-30242550.pdf?src-supplier=Onlinecomponents.com; ComponentLink8URL: https://datasheet.ciiva.com/755/5024940670-sd-755789.pdf?src-supplier=Digi-Key; ComponentLink8Description: https://datasheet.ciiva.com/755/5024940670-sd-755789.pdf?src-supplier=Digi-Key; Supplier Part Number 1: WM2283CT-ND
footprint MOLEX-5024940670 (Molex 5024940670 6 pin 2mm pitch SMD RA connector)
pins: 0, 1, 2, 3, 4, 5, 6

## CON_6x2M_SM_RA
designator J?  (value not drawn)
CONN HEADER SMD RIGHT ANGLE 1.5MM PITCH; Manufacturer 1: Molex; Manufacturer Part Number 1: 5031481290; Number of Circuits: 12; Voltage Rating: 100V; Current Rating: 1A; Connector Type: Receptacle,Center Strip Contact; Gender: Receptacle; Glow Wire Compliant: Non-compliant; Supplier 1: Digi-Key; Stock 1: 276; Pricing 1: 1=1.86000, 10=1.68800, 100=1.44720 (USD); RoHS: Yes; Mount: Surface Mount,Through Hole; Contact Plating: Tin; Contact Material: Copper Alloy,Copper,Tin; Housing Color: Beige; Color: Beige; Housing Material: Resin; Min Operating Temperature: -25°C; Max Operating Temperature: 85°C; Packaging: Tape and Reel; Orientation: Right Angle; Number of Rows: 2; Package Quantity: 550; Fastening Type: Latch; Contact Gender: Female; Number of Positions: 12; Termination: Solder; Number of Contacts: 12; Length: 13.3mm; Pitch: 1.5mm; Depth: 9.55mm; Radiation Hardening: No; REACH SVHC: Unknown; ComponentLink1URL: https://datasheet.ciiva.com/756/5031481090-sd-756828.pdf?src-supplier=Digi-Key; ComponentLink1Description: https://datasheet.ciiva.com/756/5031481090-sd-756828.pdf?src-supplier=Digi-Key; ComponentLink2URL: https://datasheet.ciiva.com/10083/5031481290-pcb-receptacles-10083012.pdf?src-supplier=Avnet; ComponentLink2Description: https://datasheet.ciiva.com/10083/5031481290-pcb-receptacles-10083012.pdf?src-supplier=Avnet; ComponentLink3URL: https://datasheet.ciiva.com/30261/68305031481290-pcb-receptacles-30261716.pdf?src-supplier=Onlinecomponents.com; ComponentLink3Description: https://datasheet.ciiva.com/30261/68305031481290-pcb-receptacles-30261716.pdf?src-supplier=Onlinecomponents.com; ComponentLink4URL: https://datasheet.ciiva.com/5162/5031481290-pcb-receptacles-179578-5162271.pdf?src-supplier=Mouser; ComponentLink4Description: https://datasheet.ciiva.com/5162/5031481290-pcb-receptacles-179578-5162271.pdf?src-supplier=Mouser; ComponentLink5URL: https://datasheet.ciiva.com/14155/503148-eng-tds-14155950.pdf?src-supplier=Distrelec; ComponentLink5Description: https://datasheet.ciiva.com/14155/503148-eng-tds-14155950.pdf?src-supplier=Distrelec; Supplier Part Number 1: WM14476CT-ND
footprint MOLEX-5031481290 (Molex 5024940670 12 pin 1.5 mm pitch SMD RA connector)
pins: 0, 1, 2, 3, 4, 5, 6, 7, 8, 9, 10, 11, 12

## CON_8M_SM_RA
designator J?  (value not drawn)
CONN HEADER SMD RIGHT ANGLE 1.5 MM PITCH; Manufacturer: Molex; Manufacturer Part Number: 5025850870; Current Rating: 2A; Voltage Rating: 100V; Contact Resistance: 20mR; Number of Positions: 8; Connector Type: Receptacle,Center Strip Contact; Gender: Receptacle; Pitch: 1.5mm; Glow Wire Compliant: Non-compliant; Supplier 1: Digi-Key; RoHS: Yes; Category: Headers and Wire Housings; Stock 1: 2293; Pricing 1: 1=0.73000, 10=0.64400, 100=0.55540, 500=0.45442 (USD); Mount: Surface Mount; Case/Package: SIL; Contact Plating: Tin; Contact Material: Copper,Copper Alloy,Tin; Color: Beige; Housing Color: Beige; Housing Material: Resin; Min Operating Temperature: -40°C; Max Operating Temperature: 85°C; Number of Rows: 1; Contact Gender: Female; Package Quantity: 1000; Packaging: Tape and Reel; Fastening Type: Latch; Orientation: Right Angle; Termination: Solder; Number of Contacts: 8; Number of Circuits: 8; Length: 16.3mm; Depth: 7.3mm; Radiation Hardening: No; REACH SVHC: Unknown; ComponentLink1URL: https://datasheet.ciiva.com/756/5025850370-sd-756815.pdf?src-supplier=Digi-Key; ComponentLink1Description: https://datasheet.ciiva.com/756/5025850370-sd-756815.pdf?src-supplier=Digi-Key; ComponentLink2URL: https://datasheet.ciiva.com/10085/5025850870-pcb-receptacles-10085216.pdf?src-supplier=Avnet; ComponentLink2Description: https://datasheet.ciiva.com/10085/5025850870-pcb-receptacles-10085216.pdf?src-supplier=Avnet; ComponentLink3URL: https://datasheet.ciiva.com/5149/5025850870-pcb-receptacles-230475-5149315.pdf?src-supplier=Mouser; ComponentLink3Description: https://datasheet.ciiva.com/5149/5025850870-pcb-receptacles-230475-5149315.pdf?src-supplier=Mouser; ComponentLink4URL: https://datasheet.ciiva.com/14804/368295025850870-pcb-receptacles-14804879.pdf?src-supplier=Arrow; ComponentLink4Description: https://datasheet.ciiva.com/14804/368295025850870-pcb-receptacles-14804879.pdf?src-supplier=Arrow; ComponentLink5URL: https://datasheet.ciiva.com/16736/5025850870-pcb-receptacles-16736807.pdf?src-supplier=Avnet+Europe; ComponentLink5Description: https://datasheet.ciiva.com/16736/5025850870-pcb-receptacles-16736807.pdf?src-supplier=Avnet+Europe; ComponentLink6URL: https://datasheet.ciiva.com/9468/5025850870-pcb-receptacles-9468074.pdf?src-supplier=Avnet; ComponentLink6Description: https://datasheet.ciiva.com/9468/5025850870-pcb-receptacles-9468074.pdf?src-supplier=Avnet; Supplier Part Number 1: WM14471CT-ND
footprint MOLEX-5025850870
pins: 0, 1, 2, 3, 4, 5, 6, 7 6, 8 6

## CON_10M_SM_RA
designator *
CONN HEADER SMD RIGHT ANGLE 1.5 MM PITCH; Supplier 1: Digi-Key; Supplier Part Number 1: WM14472CT-ND
footprint MOLEX-5025851070
pins: 0, 1, 2, 3, 4, 5, 6, 7 6, 8 6, 9, 10

## CON_10x2M_SM_RA
designator J?  (value not drawn)
CONN HEADER SMD RIGHT ANGLE 1.5MM PITCH; Manufacturer 1: Molex; Manufacturer Part Number 1: 5031482090; Voltage Rating: 100V; Current Rating: 1A; Connector Type: Receptacle,Forked,Center Strip Contact; Number of Positions: 20; Gender: Receptacle; Glow Wire Compliant: Non-compliant; Supplier 1: Digi-Key; Stock 1: 1742; Pricing 1: 1=2.37000, 10=2.14700, 100=1.83990 (USD); RoHS: Yes; Mount: Surface Mount,Through Hole; Housing Material: Resin; Color: Beige; Housing Color: Beige; Contact Material: Copper Alloy,Copper,Tin; Contact Plating: Tin; Min Operating Temperature: -25°C; Max Operating Temperature: 85°C; Number of Rows: 2; Packaging: Tape and Reel; Package Quantity: 550; Fastening Type: Latch; Orientation: Right Angle; Termination: Solder; Number of Contacts: 20; Contact Gender: Female; Number of Circuits: 20; Length: 19.3mm; Pitch: 1.5mm; Row Spacing: 1.5mm; Depth: 9.55mm; Radiation Hardening: No; REACH SVHC: No SVHC; ComponentLink1URL: https://datasheet.ciiva.com/6787/5031482090-sd-6787557.pdf?src-supplier=Digi-Key; ComponentLink1Description: https://datasheet.ciiva.com/6787/5031482090-sd-6787557.pdf?src-supplier=Digi-Key; ComponentLink2URL: https://datasheet.ciiva.com/10076/5031482090-pcb-receptacles-10076785.pdf?src-supplier=Avnet; ComponentLink2Description: https://datasheet.ciiva.com/10076/5031482090-pcb-receptacles-10076785.pdf?src-supplier=Avnet; ComponentLink3URL: https://datasheet.ciiva.com/5153/5031482090-pcb-receptacles-179510-5153198.pdf?src-supplier=Mouser; ComponentLink3Description: https://datasheet.ciiva.com/5153/5031482090-pcb-receptacles-179510-5153198.pdf?src-supplier=Mouser; ComponentLink4URL: https://datasheet.ciiva.com/30082/72715031482090-pcb-receptacles-30082526.pdf?src-supplier=Onlinecomponents.com; ComponentLink4Description: https://datasheet.ciiva.com/30082/72715031482090-pcb-receptacles-30082526.pdf?src-supplier=Onlinecomponents.com; ComponentLink5URL: https://datasheet.ciiva.com/6787/5031482090-sd-6787542.pdf?src-supplier=Digi-Key; ComponentLink5Description: https://datasheet.ciiva.com/6787/5031482090-sd-6787542.pdf?src-supplier=Digi-Key; ComponentLink6URL: https://datasheet.ciiva.com/6787/5031482090-sd-6787548.pdf?src-supplier=Digi-Key; ComponentLink6Description: https://datasheet.ciiva.com/6787/5031482090-sd-6787548.pdf?src-supplier=Digi-Key; Supplier Part Number 1: WM9451CT-ND
footprint MOLEX-5031482090 (Molex 5024940670 20 pin 1.5 mm pitch SMD RA connector)
pins: 0, 1, 2, 3, 4, 5, 6, 7, 8, 9, 10, 11, 12, 13, 14, 15, 16, 17, 18, 19, 20

## CON_12M_SM_RA
designator J?
CONN HEADER SMD RIGHT ANGLE 1.5MM PITCH; Supplier 1: Digi-Key
footprint MOLEX-5025851270
pins: 0, 1, 2, 3, 4, 5, 6, 7 6, 8 6, 9, 10, 11, 12

## CON_12x2M_SM_RA
designator J?  (value not drawn)
CONN HEADER SMD RIGHT ANGLE 1.5MM PITCH
footprint MOLEX-5031482490 (Molex 5024940670 24 pin 1.5 mm pitch SMD RA connector)
pins: 0, 1, 2, 3, 4, 5, 6, 7, 8, 9, 10, 11, 12, 13, 14, 15, 16, 17, 18, 19, 20, 21, 22, 23, 24

## CON_14M_SM_RA
designator J?  (value not drawn)
CONN HEADER SMD RIGHT ANGLE 2MM PITCH; Manufacturer: Molex; Manufacturer Part Number: 502494-1470; Current Rating: 3A; Number of Contacts: 14; Max Voltage Rating (AC): 250V; Mount: Surface Mount; Number of Rows: 1; Orientation: Right Angle; Max Voltage Rating (DC): 250V; ComponentLink1Description: Datasheet; ComponentLink1URL: https://www.molex.com/pdm_docs/sd/5024940270_sd.pdf; Supplier 1: Digi-Key; Supplier Part Number 1: WM2285CT-ND
footprint MOLEX-5024941470 (Molex 5024940670 14 pin 2mm pitch SMD RA connector)
pins: 0, 1, 2, 3, 4, 5, 6, 7, 8, 9, 10, 11, 12, 13, 14

## CON_BNC
designator J?
Manufacturer 1: TE Connectivity; Manufacturer Part Number 1: 1-1337543-0; Digikey Part Number: A97553-ND; Mount: Through hole
footprint 1-1337543-0
pins: 1, 2

## CON_IDC_2x5
designator *
Mount: Surface Mount
footprint IDC HEADER
pins: 1, 2, 3, 4, 5, 6, 7, 8, 9, 10

## CRYSTAL_25MHZ
designator *  Supplier Part Number 1: 1253-1724-1-ND
CRYSTAL 25.0000MHZ 12PF SMD; Manufacturer 1: Kyocera AVX; Manufacturer Part Number 1: CX2520DB25000H0FLJC1; Frequency: 25MHz; ESR (Equivalent Series Resistance): 80R; Frequency Stability: 15ppm; Frequency Tolerance: 10ppm; Supplier 1: Digi-Key; Stock 1: 11741; Pricing 1: 1=0.72000, 10=0.63300, 50=0.59120, 100=0.52250, 500=0.49500, 1000=0.41250 (USD); RoHS: Yes; Mount: Surface Mount; Case/Package: SMD/SMT; Min Operating Temperature: -30°C; Max Operating Temperature: 85°C; Packaging: Tape and Reel; Load Capacitance: 12pF; Length: 0.098inch; Height: 0.022inch; Width: 0.079inch; Ratings: AEC-Q200; ComponentLink1URL: https://media.digikey.com/pdf/Data%20Sheets/AVX%20PDFs/CX2520DB_USY1M-H1-16429-00_Spec.pdf?src-supplier=Digi-Key; ComponentLink1Description: https://media.digikey.com/pdf/Data%20Sheets/AVX%20PDFs/CX2520DB_USY1M-H1-16429-00_Spec.pdf?src-supplier=Digi-Key
pins: 1 HOT, 2 GND (power), 3 HOT, 4 NC

## CRYSTAL_32MHZ
designator Y?  Supplier Part Number 1: 1253-1730-1-ND
CRYSTAL 32MHZ 8PF SMD; Manufacturer Part Number 1: CX2520DB32000D0GPSC1; Manufacturer 1: Kyocera International Inc. Electronic Components; Package: 4-SMD, No Lead; Dimensions: 0.098" L x 0.079" W (2.50mm x 2.00mm); ComponentLink1Description: Datasheet; ComponentLink1URL: https://media.digikey.com/pdf/Data%20Sheets/AVX%20PDFs/CX2520DB_USY1M-H1-16428-00_Spec.pdf; Supplier 1: Digi-Key; Mount: Surface Mount
footprint AVX-CX2520DB32000D0GEJZ1-4_V (Hand Drawn, 4-Leads,Body 2.5x2mm)
simulation model XTAL (Spice Subcircuit)
pins: 1 HOT, 2 GND (power), 3 HOT, 4 NC

## DFR0198_TEMP_SENSOR
designator *
WATERPROOF DS18B20 DIGITAL TEMP SENSOR; Manufacturer 1: TE Connectivity AMP; Manufacturer Part Number 1: 1738131-1; Supplier 1: Digi-Key; Supplier Part Number 1: 1738-1311-ND; Mount: Panel
pins: 1 GND (power), 2 DQ (out), 3 VDD (power)

## DIFF_I2C_BUFFER
designator *  Manufacturer Part Number 1: PCA9615DPJ
IC DIFF I2C BUFFER 2CH 10TSSOP; Manufacturer 1: NXP Semiconductors; Number of Channels: 2; Operating Supply Current: 16uA; Input: 2-Wire Bus; Max Frequency: 1MHz; Supplier 1: Digi-Key; Stock 1: 4899; Pricing 1: 1=2.95000, 10=2.64900, 100=2.05930, 500=1.78100, 1000=1.48045 (USD); RoHS: Yes; Case/Package: 10-TSSOP; Number of Pins: 10; Min Operating Temperature: -40°C; Max Operating Temperature: 85°C; Packaging: Cut Tape; Package Quantity: 1; ComponentLink1URL: http://www.farnell.com/datasheets/2340284.pdf?src-supplier=Farnell; ComponentLink1Description: http://www.farnell.com/datasheets/2340284.pdf?src-supplier=Farnell; ComponentLink2URL: http://www.mouser.com/ds/2/302/PCA9615-841773.pdf?src-supplier=Mouser; ComponentLink2Description: http://www.mouser.com/ds/2/302/PCA9615-841773.pdf?src-supplier=Mouser; ComponentLink3URL: http://components.arrow.com/part/dataview/65281105S797392N7788?src-supplier=Arrow; ComponentLink3Description: http://components.arrow.com/part/dataview/65281105S797392N7788?src-supplier=Arrow; ComponentLink4URL: http://www.nxp.com/documents/data_sheet/PCA9615.pdf?src-supplier=Avnet; ComponentLink4Description: http://www.nxp.com/documents/data_sheet/PCA9615.pdf?src-supplier=Avnet; ComponentLink5Description: Digikey Link; ComponentLink5URL: https://www.digikey.ca/products/en/integrated-circuits-ics/interface-signal-buffers-repeaters-splitters/756?k=PCA9615&k=&pkeyword=PCA9615&sv=0&pv7=2&sf=0&FV=-8%7C756&quantity=&ColumnSort=0&page=1&pageSize=25; Supplier Part Number 1: 568-11484-1-ND; Mount: Surface Mount
footprint PCA9615DPJ (TSSOP-10)
pins: 1 VDDA, 2 SDA, 3 EN, 4 SCL, 5 VSS, 6 DSCLM, 7 DSCLP, 8 DSDAP, 9 DSDAM, 10 VDDB

## DIO_BAS16GW
designator D?, comment 0  Manufacturer Part Number 1: BAS16GW
DIODE GEN PURP 100V 215MA SOD123; Manufacturer 1: Nexperia; Package: SOD-123; ComponentLink1Description: Datasheet; ComponentLink1URL: https://assets.nexperia.com/documents/data-sheet/BAS16GW.pdf; Supplier Part Number 1: 1727-7320-1-ND; Supplier 1: Digi-Key; Mount: Surface Mount
simulation model LED1 (Diode)
footprint DIODSOD-123 (SOD-123, 2-Leads, Body 2.85x1.7mm (max), Pitch 3.7mm)
pins: 1 A, 2 K

## DIO_LED_G
designator D?
LED GREEN DIFFUSED 0805 SMD; Manufacturer Part Number 1: LG R971-KN-1; Manufacturer 1: OSRAM; Forward Voltage Drop: 2.2V; Package: 0805 (2012 Metric); Supplier Part Number 1: 475-1410-1-ND; Supplier 1: Digi-Key; Mount: Surface Mount
footprint LED_0805_LINE (SMD, 2-Leads, Body 2x1.25mm)
simulation model LED1 (Diode)
pins: 1 A, 2 K

## DIO_LED_R
designator D?
LED RED DIFFUSED 0805 SMD; Manufacturer Part Number 1: LS R976-NR-1; Manufacturer 1: OSRAM; Forward Voltage Drop: 2V; Package: 0805 (2012 Metric); Supplier Part Number 1: 475-1278-1-ND; Supplier 1: Digi-Key; Mount: Surface Mount
footprint LED_0805_LINE (SMD, 2-Leads, Body 2x1.25mm)
simulation model LED1 (Diode)
pins: 1 A, 2 K

## DIO_LED_Y
designator D?
LED YELLOW DIFFUSED 0805 SMD; Manufacturer Part Number 1: LY R976-PS-36; Manufacturer 1: OSRAM; Forward Voltage Drop: 2.2V; Package: 0805 (2012 Metric); Supplier Part Number 1: 475-2560-1-ND; Supplier 1: Digi-Key; Mount: Surface Mount
footprint LED_0805_LINE (SMD, 2-Leads, Body 2x1.25mm)
simulation model LED1 (Diode)
pins: 1 A, 2 K

## DIO_SCHOTTKEY
designator D?
DIODE SCHOTTKEY 100V REVERSE / 0.96V FORWARD SOD123F; Manufacturer 1: STMicroelectronics; Manufacturer Part Number 1: STPSH100ZF; Supplier 1: Digi-Key; Supplier Part Number 1: 497-17152-2-ND; Mount: Surface Mount
footprint SOD-123_FLAT
pins: 1 Anode, 2 Cathode
text: 3.3V

## DIO_SCHOTTKY_30V_800mA
designator D?
DIODE SCHOTTKY 30V 800MA USC; Manufacturer 1: Toshiba Semiconductor and Storage; Manufacturer Part Number 1: CUS08F30,H3F; Vf (Max): 220mV; Supplier 1: Digi-Key; Supplier Part Number 1: CUS08F30H3FCT-ND; Mount: Surface Mount; Vr (Max): 30V; Io: 800mA
footprint DIO_CUS520,H3F
pins: 1 Anode, 2 Cathode